# Altium integrated library TI Power Mgt Switching Regulator.IntLib: 16 symbols
Pins are listed as number, name and electrical type; pins without a type are passive.

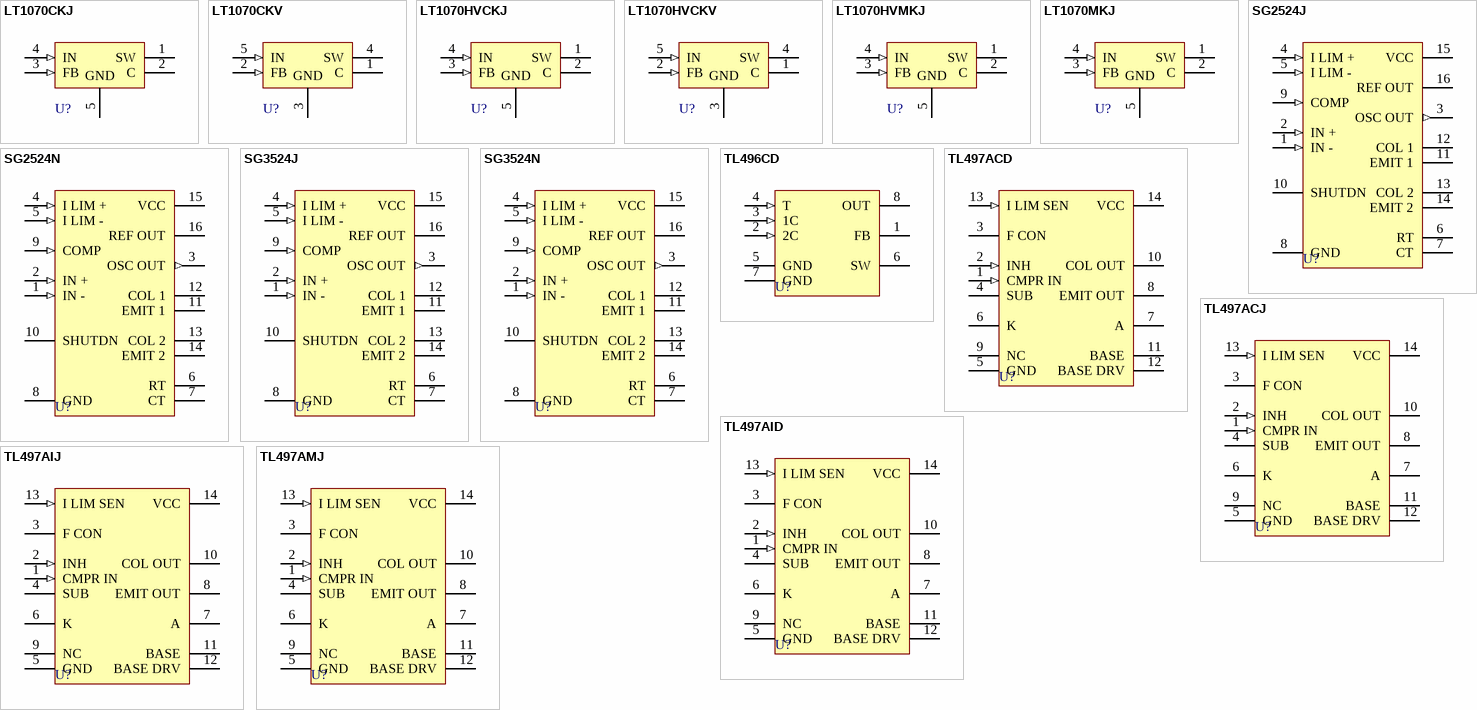
[diagram p0: symbols LT1070CKJ to TL497AMJ]

## LT1070CKJ
designator U?
5-A High-Efficiency Switching Regulator; Note: Case is Pin 5, is GND.; Published: 15-Apr-2002; DatasheetVersion: Oct-1988; PackageVersion: 1989; PackageReference: KJ004; Publisher: Altium Limited; PackageDescription: Oval Flange Mount; 4 Leads; Pin Circle Dia. 11.94 mm; Lead Dia. 1.09 mm (max); ComponentLink1Description: Manufacturer Link; ComponentLink1URL: http://www.ti.com/
footprint KJ004 (Oval Flange Mount; 4 Leads; Pin Circle Dia. 11.94 mm; Lead Dia. 1.09 mm (max))
pins: 1 SW, 2 C, 3 FB (in), 4 IN (in), 5 GND (power)

## LT1070CKV
designator U?
5-A High-Efficiency Switching Regulator; Note: Tab is connected to GND.; Published: 15-Apr-2002; LatestRevisionDate: 28-Feb-2003; LatestRevisionNote: PCB Footprint, 'DFM-T5/Y1.7V' replaced.; DatasheetVersion: Oct-1988; PackageVersion: 1989; PackageReference: KV005; Publisher: Altium Limited; PackageDescription: TO, Thru-Hole, Vertical, Heatsink Mounted; 5 Bent Staggered Leads; Pitch 1.7 mm; ComponentLink1Description: Manufacturer Link; ComponentLink1URL: http://www.ti.com/
footprint KV005 (TO, Thru-Hole, Vertical, Heatsink Mounted; 5 Bent Staggered Leads; Pitch 1.7 mm)
pins: 1 C, 2 FB (in), 3 GND (power), 4 SW, 5 IN (in)

## LT1070HVCKJ
designator U?
5-A High-Efficiency Switching Regulator; Note: Case is Pin 5, is GND.; Published: 15-Apr-2002; DatasheetVersion: Oct-1988; PackageVersion: 1989; PackageReference: KJ004; Publisher: Altium Limited; PackageDescription: Oval Flange Mount; 4 Leads; Pin Circle Dia. 11.94 mm; Lead Dia. 1.09 mm (max); ComponentLink1Description: Manufacturer Link; ComponentLink1URL: http://www.ti.com/
footprint KJ004 (Oval Flange Mount; 4 Leads; Pin Circle Dia. 11.94 mm; Lead Dia. 1.09 mm (max))
pins: 1 SW, 2 C, 3 FB (in), 4 IN (in), 5 GND (power)

## LT1070HVCKV
designator U?
5-A High-Efficiency Switching Regulator; Note: Tab is connected to GND.; Published: 15-Apr-2002; LatestRevisionDate: 28-Feb-2003; LatestRevisionNote: PCB Footprint, 'DFM-T5/Y1.7V' replaced.; DatasheetVersion: Oct-1988; PackageVersion: 1989; PackageReference: KV005; Publisher: Altium Limited; PackageDescription: TO, Thru-Hole, Vertical, Heatsink Mounted; 5 Bent Staggered Leads; Pitch 1.7 mm; ComponentLink1Description: Manufacturer Link; ComponentLink1URL: http://www.ti.com/
footprint KV005 (TO, Thru-Hole, Vertical, Heatsink Mounted; 5 Bent Staggered Leads; Pitch 1.7 mm)
pins: 1 C, 2 FB (in), 3 GND (power), 4 SW, 5 IN (in)

## LT1070HVMKJ
designator U?
5-A High-Efficiency Switching Regulator; Note: Case is Pin 5, is GND.; Published: 15-Apr-2002; DatasheetVersion: Oct-1988; PackageVersion: 1989; PackageReference: KJ004; Publisher: Altium Limited; PackageDescription: Oval Flange Mount; 4 Leads; Pin Circle Dia. 11.94 mm; Lead Dia. 1.09 mm (max); ComponentLink1Description: Manufacturer Link; ComponentLink1URL: http://www.ti.com/
footprint KJ004 (Oval Flange Mount; 4 Leads; Pin Circle Dia. 11.94 mm; Lead Dia. 1.09 mm (max))
pins: 1 SW, 2 C, 3 FB (in), 4 IN (in), 5 GND (power)

## LT1070MKJ
designator U?
5-A High-Efficiency Switching Regulator; Note: Case is Pin 5, is GND.; Published: 15-Apr-2002; DatasheetVersion: Oct-1988; PackageVersion: 1989; PackageReference: KJ004; Publisher: Altium Limited; PackageDescription: Oval Flange Mount; 4 Leads; Pin Circle Dia. 11.94 mm; Lead Dia. 1.09 mm (max); ComponentLink1Description: Manufacturer Link; ComponentLink1URL: http://www.ti.com/
footprint KJ004 (Oval Flange Mount; 4 Leads; Pin Circle Dia. 11.94 mm; Lead Dia. 1.09 mm (max))
pins: 1 SW, 2 C, 3 FB (in), 4 IN (in), 5 GND (power)

## SG2524J
designator U?
Regulating Pulse-Width Modulator; Published: 15-Apr-2002; LatestRevisionDate: 06-Jun-2005; LatestRevisionNote: Stylized 3D Model Added.; DatasheetVersion: Oct-1988; PackageVersion: Jun-1999; PackageReference: J016; Publisher: Altium Limited; PackageDescription: DIP; 16 Leads; Row Spacing 7.62 mm; Pitch 2.54 mm; ComponentLink1Description: Manufacturer Link; ComponentLink1URL: http://www.ti.com/
footprint J016 (DIP; 16 Leads; Row Spacing 7.62 mm; Pitch 2.54 mm)
3D model J016 (DIP; 16 Leads; Row Spacing 7.62 mm; Pitch 2.54 mm)
pins: 1 IN - (in), 2 IN + (in), 3 OSC OUT (out), 4 I LIM + (in), 5 I LIM - (in), 6 RT, 7 CT, 8 GND (power), 9 COMP (in), 10 SHUTDN, 11 EMIT 1, 12 COL 1, 13 COL 2, 14 EMIT 2, 15 VCC (power), 16 REF OUT

## SG2524N
designator U?
Regulating Pulse-Width Modulator; Published: 15-Apr-2002; LatestRevisionDate: 06-Jun-2005; LatestRevisionNote: Stylized 3D Model Added.; DatasheetVersion: Oct-1988; PackageVersion: Oct-1995; PackageReference: N016; Publisher: Altium Limited; PackageDescription: DIP; 16 Leads; Row Spacing 7.62 mm; Pitch 2.54 mm; Code_JEDEC: MS-001-BB; ComponentLink1Description: Manufacturer Link; ComponentLink1URL: http://www.ti.com/
footprint N016 (DIP; 16 Leads; Row Spacing 7.62 mm; Pitch 2.54 mm)
3D model N016 (DIP; 16 Leads; Row Spacing 7.62 mm; Pitch 2.54 mm)
pins: 1 IN - (in), 2 IN + (in), 3 OSC OUT (out), 4 I LIM + (in), 5 I LIM - (in), 6 RT, 7 CT, 8 GND (power), 9 COMP (in), 10 SHUTDN, 11 EMIT 1, 12 COL 1, 13 COL 2, 14 EMIT 2, 15 VCC (power), 16 REF OUT

## SG3524J
designator U?
Regulating Pulse-Width Modulator; Published: 15-Apr-2002; LatestRevisionDate: 06-Jun-2005; LatestRevisionNote: Stylized 3D Model Added.; DatasheetVersion: Oct-1988; PackageVersion: Jun-1999; PackageReference: J016; Publisher: Altium Limited; PackageDescription: DIP; 16 Leads; Row Spacing 7.62 mm; Pitch 2.54 mm; ComponentLink1Description: Manufacturer Link; ComponentLink1URL: http://www.ti.com/
footprint J016 (DIP; 16 Leads; Row Spacing 7.62 mm; Pitch 2.54 mm)
3D model J016 (DIP; 16 Leads; Row Spacing 7.62 mm; Pitch 2.54 mm)
pins: 1 IN - (in), 2 IN + (in), 3 OSC OUT (out), 4 I LIM + (in), 5 I LIM - (in), 6 RT, 7 CT, 8 GND (power), 9 COMP (in), 10 SHUTDN, 11 EMIT 1, 12 COL 1, 13 COL 2, 14 EMIT 2, 15 VCC (power), 16 REF OUT

## SG3524N
designator U?
Regulating Pulse-Width Modulator; Published: 15-Apr-2002; LatestRevisionDate: 06-Jun-2005; LatestRevisionNote: Stylized 3D Model Added.; DatasheetVersion: Oct-1988; PackageVersion: Oct-1995; PackageReference: N016; Publisher: Altium Limited; PackageDescription: DIP; 16 Leads; Row Spacing 7.62 mm; Pitch 2.54 mm; Code_JEDEC: MS-001-BB; ComponentLink1Description: Manufacturer Link; ComponentLink1URL: http://www.ti.com/
footprint N016 (DIP; 16 Leads; Row Spacing 7.62 mm; Pitch 2.54 mm)
3D model N016 (DIP; 16 Leads; Row Spacing 7.62 mm; Pitch 2.54 mm)
pins: 1 IN - (in), 2 IN + (in), 3 OSC OUT (out), 4 I LIM + (in), 5 I LIM - (in), 6 RT, 7 CT, 8 GND (power), 9 COMP (in), 10 SHUTDN, 11 EMIT 1, 12 COL 1, 13 COL 2, 14 EMIT 2, 15 VCC (power), 16 REF OUT

## TL496CD
designator U?
9-Volt Power-Supply Controller; Note: Pins 5 & 7 are connected together internally, but must terminate together to ensure proper circuit operation.; Published: 15-Apr-2002; LatestRevisionDate: 13-Apr-2006; LatestRevisionNote: IPC-7351 Footprint Added.; DatasheetVersion: Feb-1988; PackageVersion: Jan-1998; PackageReference: D008; Publisher: Altium Limited; PackageDescription: 8-Pin Small Outline Integrated Circuit 1.27 mm Pitch; Code_IPC: SOIC127P600-8; ComponentLink1Description: Manufacturer Link; ComponentLink1URL: http://www.ti.com/
footprint D008_N (SOIC, 8-Leads, Body 4.9x3.9mm, Pitch 1.27mm, IPC Medium Density)
footprint D008_L (SOIC, 8-Leads, Body 4.9x3.9mm, Pitch 1.27mm, IPC High Density)
footprint D008_M (SOIC, 8-Leads, Body 4.9x3.9mm, Pitch 1.27mm, IPC Low Density)
3D model D008 (8-Pin Small Outline Integrated Circuit 1.27 mm Pitch)
pins: 1 FB, 2 2C (in), 3 1C (in), 4 T (in), 5 GND (power), 6 SW, 7 GND (power), 8 OUT (power)

## TL497ACD
designator U?
Switching Voltage Regulator; Published: 15-Apr-2002; LatestRevisionDate: 13-Apr-2006; LatestRevisionNote: IPC-7351 Footprint Added.; DatasheetVersion: Oct-1988; PackageVersion: Jan-1998; PackageReference: D014; Publisher: Altium Limited; PackageDescription: 14-Pin Small Outline Integrated Circuit 1.27 mm Pitch; Code_IPC: SOIC127P600-14; ComponentLink1Description: Manufacturer Link; ComponentLink1URL: http://www.ti.com/
footprint D014_N (SOIC, 14-Leads, Body 8.7x3.9mm, Pitch 1.27mm, IPC Medium Density)
footprint D014_L (SOIC, 14-Leads, Body 8.7x3.9mm, Pitch 1.27mm, IPC High Density)
footprint D014_M (SOIC, 14-Leads, Body 8.7x3.9mm, Pitch 1.27mm, IPC Low Density)
3D model D014 (14-Pin Small Outline Integrated Circuit 1.27 mm Pitch)
pins: 1 CMPR IN (in), 2 INH (in), 3 F CON, 4 SUB, 5 GND (power), 6 K, 7 A, 8 EMIT OUT, 9 NC, 10 COL OUT, 11 BASE, 12 BASE DRV, 13 I LIM SEN (in), 14 VCC (power)

## TL497ACJ
designator U?
Switching Voltage Regulator; Published: 15-Apr-2002; LatestRevisionDate: 06-Jun-2005; LatestRevisionNote: Stylized 3D Model Added.; DatasheetVersion: Oct-1988; PackageVersion: Jun-1999; PackageReference: J014; Publisher: Altium Limited; PackageDescription: DIP; 14 Leads; Row Spacing 7.62 mm; Pitch 2.54 mm; ComponentLink1Description: Manufacturer Link; ComponentLink1URL: http://www.ti.com/
footprint J014 (DIP; 14 Leads; Row Spacing 7.62 mm; Pitch 2.54 mm)
3D model J014 (DIP; 14 Leads; Row Spacing 7.62 mm; Pitch 2.54 mm)
pins: 1 CMPR IN (in), 2 INH (in), 3 F CON, 4 SUB, 5 GND (power), 6 K, 7 A, 8 EMIT OUT, 9 NC, 10 COL OUT, 11 BASE, 12 BASE DRV, 13 I LIM SEN (in), 14 VCC (power)

## TL497AID
designator U?
Switching Voltage Regulator; Published: 15-Apr-2002; LatestRevisionDate: 13-Apr-2006; LatestRevisionNote: IPC-7351 Footprint Added.; DatasheetVersion: Oct-1988; PackageVersion: Jan-1998; PackageReference: D014; Publisher: Altium Limited; PackageDescription: 14-Pin Small Outline Integrated Circuit 1.27 mm Pitch; Code_IPC: SOIC127P600-14; ComponentLink1Description: Manufacturer Link; ComponentLink1URL: http://www.ti.com/
footprint D014_N (SOIC, 14-Leads, Body 8.7x3.9mm, Pitch 1.27mm, IPC Medium Density)
footprint D014_L (SOIC, 14-Leads, Body 8.7x3.9mm, Pitch 1.27mm, IPC High Density)
footprint D014_M (SOIC, 14-Leads, Body 8.7x3.9mm, Pitch 1.27mm, IPC Low Density)
3D model D014 (14-Pin Small Outline Integrated Circuit 1.27 mm Pitch)
pins: 1 CMPR IN (in), 2 INH (in), 3 F CON, 4 SUB, 5 GND (power), 6 K, 7 A, 8 EMIT OUT, 9 NC, 10 COL OUT, 11 BASE, 12 BASE DRV, 13 I LIM SEN (in), 14 VCC (power)

## TL497AIJ
designator U?
Switching Voltage Regulator; Published: 15-Apr-2002; LatestRevisionDate: 06-Jun-2005; LatestRevisionNote: Stylized 3D Model Added.; DatasheetVersion: Oct-1988; PackageVersion: Jun-1999; PackageReference: J014; Publisher: Altium Limited; PackageDescription: DIP; 14 Leads; Row Spacing 7.62 mm; Pitch 2.54 mm; ComponentLink1Description: Manufacturer Link; ComponentLink1URL: http://www.ti.com/
footprint J014 (DIP; 14 Leads; Row Spacing 7.62 mm; Pitch 2.54 mm)
3D model J014 (DIP; 14 Leads; Row Spacing 7.62 mm; Pitch 2.54 mm)
pins: 1 CMPR IN (in), 2 INH (in), 3 F CON, 4 SUB, 5 GND (power), 6 K, 7 A, 8 EMIT OUT, 9 NC, 10 COL OUT, 11 BASE, 12 BASE DRV, 13 I LIM SEN (in), 14 VCC (power)

## TL497AMJ
designator U?
Switching Voltage Regulator; Published: 15-Apr-2002; LatestRevisionDate: 06-Jun-2005; LatestRevisionNote: Stylized 3D Model Added.; DatasheetVersion: Oct-1988; PackageVersion: Jun-1999; PackageReference: J014; Publisher: Altium Limited; PackageDescription: DIP; 14 Leads; Row Spacing 7.62 mm; Pitch 2.54 mm; ComponentLink1Description: Manufacturer Link; ComponentLink1URL: http://www.ti.com/
footprint J014 (DIP; 14 Leads; Row Spacing 7.62 mm; Pitch 2.54 mm)
3D model J014 (DIP; 14 Leads; Row Spacing 7.62 mm; Pitch 2.54 mm)
pins: 1 CMPR IN (in), 2 INH (in), 3 F CON, 4 SUB, 5 GND (power), 6 K, 7 A, 8 EMIT OUT, 9 NC, 10 COL OUT, 11 BASE, 12 BASE DRV, 13 I LIM SEN (in), 14 VCC (power)